# Altium footprint library optics.PcbLib: 67 footprints (part 2 of 5)
Each footprint in its own frame and in the unit in brackets; x right, y up, seen from the top. Pads: shape width x height; smd on the part's side, far side on the other; paste and mask are expansions set on the pad; w line width, h text height; cw(c..) or ccw(c..) is an arc to the next point about the centre after c.
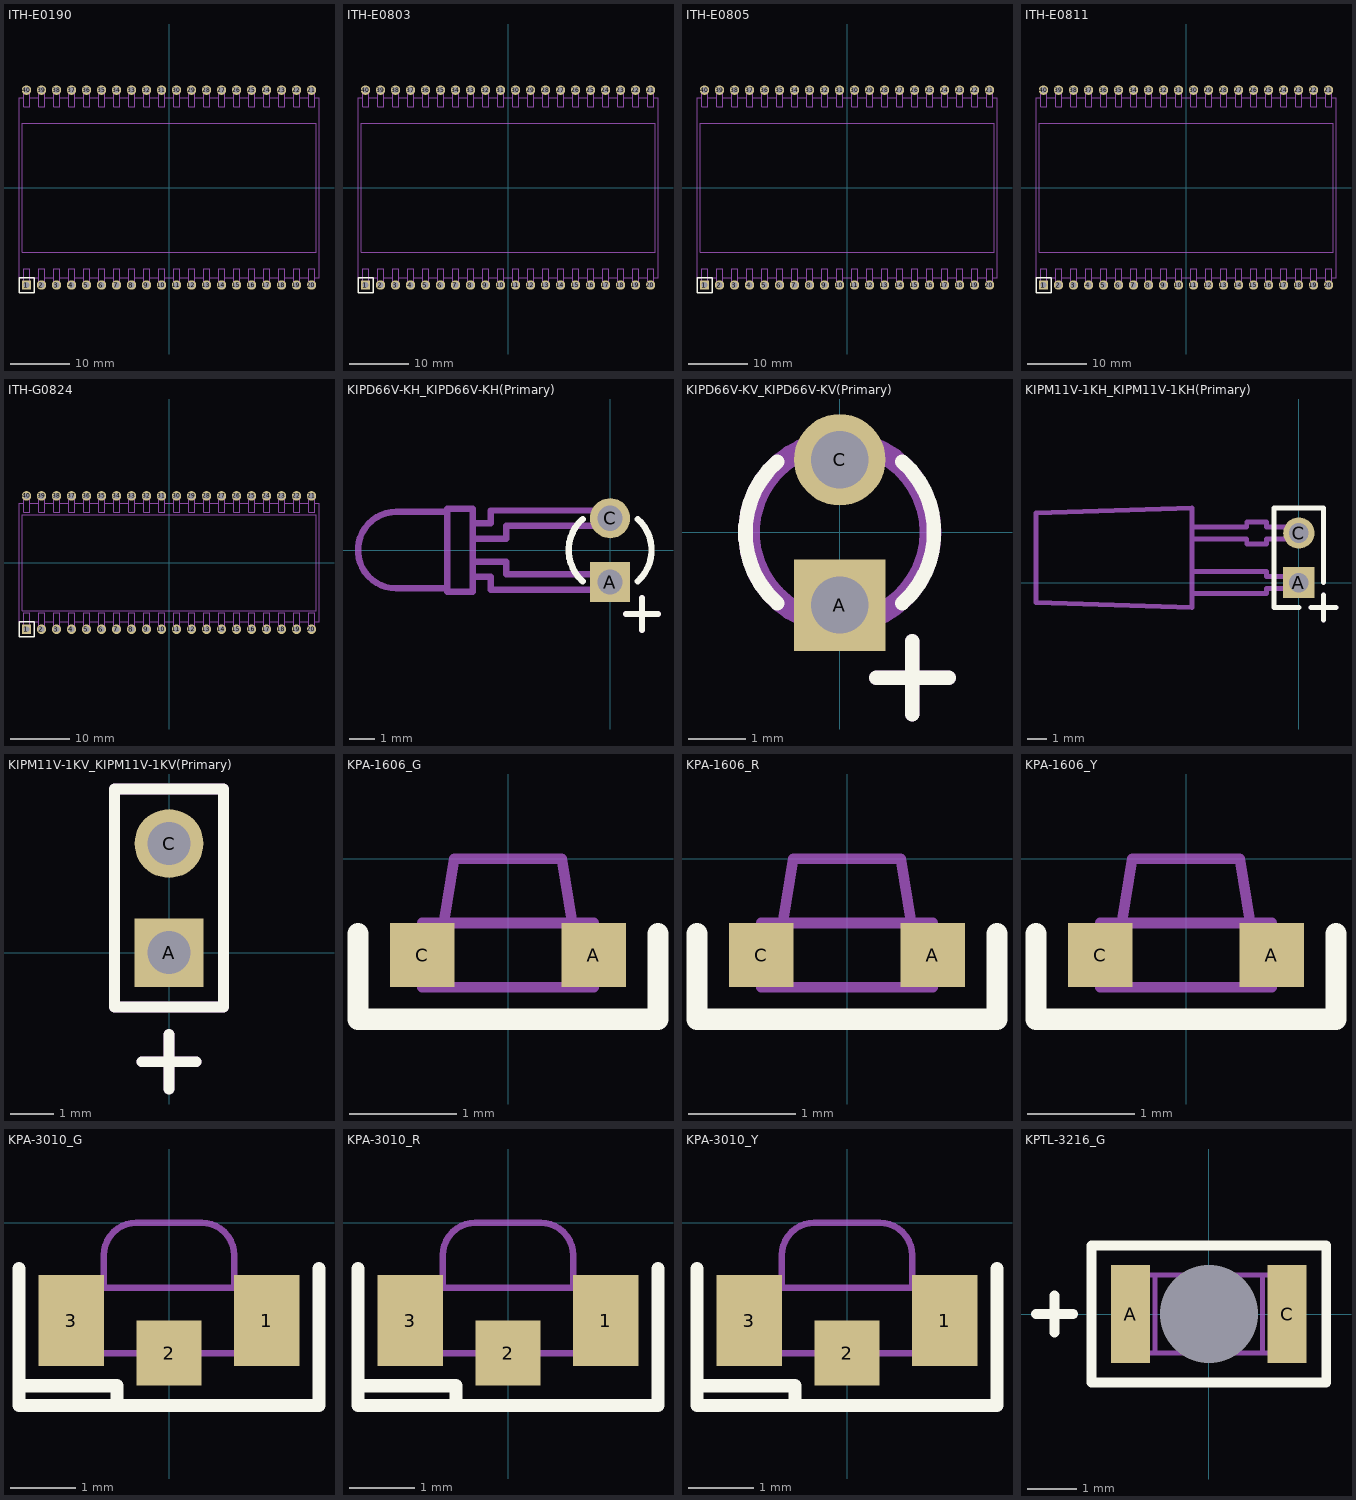
[diagram p1: the footprints below, top view; thin cyan lines are the x and y axes]

## ITH-E0190 [mm] "Intech numeric LCD"
height 5.8
pads (40):
  rect 1.6x1.6 hole 1: 1(-24.13,-16.5)
  round 1.6 hole 1: 2(-21.59,-16.5) 3(-19.05,-16.5) 4(-16.51,-16.5) 5(-13.97,-16.5) 6(-11.43,-16.5) 7(-8.89,-16.5) 8(-6.35,-16.5) 9(-3.81,-16.5) 10(-1.27,-16.5) 11(1.27,-16.5) 12(3.81,-16.5) 13(6.35,-16.5) 14(8.89,-16.5) 15(11.43,-16.5) 16(13.97,-16.5) 17(16.51,-16.5) 18(19.05,-16.5) 19(21.59,-16.5) 20(24.13,-16.5) 21(24.13,16.5) 22(21.59,16.5) 23(19.05,16.5) 24(16.51,16.5) 25(13.97,16.5) 26(11.43,16.5) 27(8.89,16.5) 28(6.35,16.5) 29(3.81,16.5) 30(1.27,16.5) 31(-1.27,16.5) 32(-3.81,16.5) 33(-6.35,16.5) 34(-8.89,16.5) 35(-11.43,16.5) 36(-13.97,16.5) 37(-16.51,16.5) 38(-19.05,16.5) 39(-21.59,16.5) 40(-24.13,16.5)
Top Overlay:
  lines w0.25: -25.4,-17.78 -25.4,-15.24 -22.86,-15.24 -22.86,-17.78 -25.4,-17.78
Mechanical 1:
  drawing of 208 lines, arcs and shapes, not listed
3D body: height 3, standoff -3.4, extent 23.53,13.51 24.73,16.71
3D body: height 3, standoff -3.4, extent 20.99,13.51 22.19,16.71
3D body: height 3, standoff -3.4, extent 18.45,13.51 19.65,16.71
3D body: height 3, standoff -3.4, extent 13.37,13.51 14.57,16.71
3D body: height 3, standoff -3.4, extent 15.91,13.51 17.11,16.71
3D body: height 3, standoff -3.4, extent 10.83,13.51 12.03,16.71
3D body: height 3, standoff -3.4, extent 8.29,13.51 9.49,16.71
3D body: height 3, standoff -3.4, extent 3.21,13.51 4.41,16.71
3D body: height 3, standoff -3.4, extent 5.75,13.51 6.95,16.71
3D body: height 3, standoff -3.4, extent -19.65,13.51 -18.45,16.71
3D body: height 3, standoff -3.4, extent -22.19,13.51 -20.99,16.71
3D body: height 3, standoff -3.4, extent -24.73,13.51 -23.53,16.71
3D body: height 3, standoff -3.4, extent -9.49,13.51 -8.29,16.71
3D body: height 3, standoff -3.4, extent -12.03,13.51 -10.83,16.71
3D body: height 3, standoff -3.4, extent -17.11,13.51 -15.91,16.71
3D body: height 3, standoff -3.4, extent -14.57,13.51 -13.37,16.71
3D body: height 3, standoff -3.4, extent -4.41,13.51 -3.21,16.71
3D body: height 3, standoff -3.4, extent -6.95,13.51 -5.75,16.71
3D body: height 3, standoff -3.4, extent 20.99,-16.69 22.19,-13.49
3D body: height 3, standoff -3.4, extent 18.45,-16.69 19.65,-13.49
3D body: height 3, standoff -3.4, extent 15.91,-16.69 17.11,-13.49
3D body: height 3, standoff -3.4, extent 13.37,-16.69 14.57,-13.49
3D body: height 3, standoff -3.4, extent 3.21,-16.69 4.41,-13.49
3D body: height 3, standoff -3.4, extent 5.75,-16.69 6.95,-13.49
3D body: height 3, standoff -3.4, extent 8.29,-16.69 9.49,-13.49
3D body: height 3, standoff -3.4, extent 10.83,-16.69 12.03,-13.49
3D body: height 3, standoff -3.4, extent 23.53,-16.69 24.73,-13.49
3D body: height 3, standoff -3.4, extent -1.87,-16.69 -0.67,-13.49
3D body: height 3, standoff -3.4, extent -14.57,-16.69 -13.37,-13.49
3D body: height 3, standoff -3.4, extent -17.11,-16.69 -15.91,-13.49
3D body: height 3, standoff -3.4, extent -19.65,-16.69 -18.45,-13.49
3D body: height 3, standoff -3.4, extent -22.19,-16.69 -20.99,-13.49
3D body: height 3, standoff -3.4, extent -24.73,-16.69 -23.53,-13.49
3D body: height 3, standoff -3.4, extent -12.03,-16.69 -10.83,-13.49
3D body: height 3, standoff -3.4, extent -9.49,-16.69 -8.29,-13.49
3D body: height 3, standoff -3.4, extent -6.95,-16.69 -5.75,-13.49
3D body: height 3, standoff -3.4, extent -4.41,-16.69 -3.21,-13.49
3D body: height 5.8, standoff 4.01, extent -25,-11 25,11
3D body: height 3, standoff -3.4, extent -1.87,13.51 -0.67,16.71
3D body: height 3, standoff -3.4, extent 0.67,13.51 1.87,16.71
3D body: height 4, standoff 3, extent -25.4,-15.25 25.4,15.25
3D body: height 3, standoff -3.4, extent 0.67,-16.69 1.87,-13.49

## ITH-E0803 [mm] "Intech numeric LCD"
height 5.8
pads (40):
  rect 1.6x1.6 hole 1: 1(-24.13,-16.5)
  round 1.6 hole 1: 2(-21.59,-16.5) 3(-19.05,-16.5) 4(-16.51,-16.5) 5(-13.97,-16.5) 6(-11.43,-16.5) 7(-8.89,-16.5) 8(-6.35,-16.5) 9(-3.81,-16.5) 10(-1.27,-16.5) 11(1.27,-16.5) 12(3.81,-16.5) 13(6.35,-16.5) 14(8.89,-16.5) 15(11.43,-16.5) 16(13.97,-16.5) 17(16.51,-16.5) 18(19.05,-16.5) 19(21.59,-16.5) 20(24.13,-16.5) 21(24.13,16.5) 22(21.59,16.5) 23(19.05,16.5) 24(16.51,16.5) 25(13.97,16.5) 26(11.43,16.5) 27(8.89,16.5) 28(6.35,16.5) 29(3.81,16.5) 30(1.27,16.5) 31(-1.27,16.5) 32(-3.81,16.5) 33(-6.35,16.5) 34(-8.89,16.5) 35(-11.43,16.5) 36(-13.97,16.5) 37(-16.51,16.5) 38(-19.05,16.5) 39(-21.59,16.5) 40(-24.13,16.5)
Top Overlay:
  lines w0.25: -25.4,-17.78 -22.86,-17.78 -22.86,-15.24 -25.4,-15.24 -25.4,-17.78
Mechanical 1:
  drawing of 208 lines, arcs and shapes, not listed
3D body: height 3, standoff -3.4, extent 0.67,-16.69 1.87,-13.49
3D body: height 4, standoff 3, extent -25.4,-15.25 25.4,15.25
3D body: height 3, standoff -3.4, extent 0.67,13.51 1.87,16.71
3D body: height 3, standoff -3.4, extent -1.87,13.51 -0.67,16.71
3D body: height 5.8, standoff 4.01, extent -25,-11 25,11
3D body: height 3, standoff -3.4, extent -4.41,-16.69 -3.21,-13.49
3D body: height 3, standoff -3.4, extent -6.95,-16.69 -5.75,-13.49
3D body: height 3, standoff -3.4, extent -9.49,-16.69 -8.29,-13.49
3D body: height 3, standoff -3.4, extent -12.03,-16.69 -10.83,-13.49
3D body: height 3, standoff -3.4, extent -24.73,-16.69 -23.53,-13.49
3D body: height 3, standoff -3.4, extent -22.19,-16.69 -20.99,-13.49
3D body: height 3, standoff -3.4, extent -19.65,-16.69 -18.45,-13.49
3D body: height 3, standoff -3.4, extent -17.11,-16.69 -15.91,-13.49
3D body: height 3, standoff -3.4, extent -14.57,-16.69 -13.37,-13.49
3D body: height 3, standoff -3.4, extent -1.87,-16.69 -0.67,-13.49
3D body: height 3, standoff -3.4, extent 23.53,-16.69 24.73,-13.49
3D body: height 3, standoff -3.4, extent 10.83,-16.69 12.03,-13.49
3D body: height 3, standoff -3.4, extent 8.29,-16.69 9.49,-13.49
3D body: height 3, standoff -3.4, extent 5.75,-16.69 6.95,-13.49
3D body: height 3, standoff -3.4, extent 3.21,-16.69 4.41,-13.49
3D body: height 3, standoff -3.4, extent 13.37,-16.69 14.57,-13.49
3D body: height 3, standoff -3.4, extent 15.91,-16.69 17.11,-13.49
3D body: height 3, standoff -3.4, extent 18.45,-16.69 19.65,-13.49
3D body: height 3, standoff -3.4, extent 20.99,-16.69 22.19,-13.49
3D body: height 3, standoff -3.4, extent -6.95,13.51 -5.75,16.71
3D body: height 3, standoff -3.4, extent -4.41,13.51 -3.21,16.71
3D body: height 3, standoff -3.4, extent -14.57,13.51 -13.37,16.71
3D body: height 3, standoff -3.4, extent -17.11,13.51 -15.91,16.71
3D body: height 3, standoff -3.4, extent -12.03,13.51 -10.83,16.71
3D body: height 3, standoff -3.4, extent -9.49,13.51 -8.29,16.71
3D body: height 3, standoff -3.4, extent -24.73,13.51 -23.53,16.71
3D body: height 3, standoff -3.4, extent -22.19,13.51 -20.99,16.71
3D body: height 3, standoff -3.4, extent -19.65,13.51 -18.45,16.71
3D body: height 3, standoff -3.4, extent 5.75,13.51 6.95,16.71
3D body: height 3, standoff -3.4, extent 3.21,13.51 4.41,16.71
3D body: height 3, standoff -3.4, extent 8.29,13.51 9.49,16.71
3D body: height 3, standoff -3.4, extent 10.83,13.51 12.03,16.71
3D body: height 3, standoff -3.4, extent 15.91,13.51 17.11,16.71
3D body: height 3, standoff -3.4, extent 13.37,13.51 14.57,16.71
3D body: height 3, standoff -3.4, extent 18.45,13.51 19.65,16.71
3D body: height 3, standoff -3.4, extent 20.99,13.51 22.19,16.71
3D body: height 3, standoff -3.4, extent 23.53,13.51 24.73,16.71

## ITH-E0805 [mm] "Intech numeric LCD"
height 5.8
pads (40):
  rect 1.6x1.6 hole 1: 1(-24.13,-16.5)
  round 1.6 hole 1: 2(-21.59,-16.5) 3(-19.05,-16.5) 4(-16.51,-16.5) 5(-13.97,-16.5) 6(-11.43,-16.5) 7(-8.89,-16.5) 8(-6.35,-16.5) 9(-3.81,-16.5) 10(-1.27,-16.5) 11(1.27,-16.5) 12(3.81,-16.5) 13(6.35,-16.5) 14(8.89,-16.5) 15(11.43,-16.5) 16(13.97,-16.5) 17(16.51,-16.5) 18(19.05,-16.5) 19(21.59,-16.5) 20(24.13,-16.5) 21(24.13,16.5) 22(21.59,16.5) 23(19.05,16.5) 24(16.51,16.5) 25(13.97,16.5) 26(11.43,16.5) 27(8.89,16.5) 28(6.35,16.5) 29(3.81,16.5) 30(1.27,16.5) 31(-1.27,16.5) 32(-3.81,16.5) 33(-6.35,16.5) 34(-8.89,16.5) 35(-11.43,16.5) 36(-13.97,16.5) 37(-16.51,16.5) 38(-19.05,16.5) 39(-21.59,16.5) 40(-24.13,16.5)
Top Overlay:
  lines w0.25: -25.4,-17.78 -25.4,-15.24 -22.86,-15.24 -22.86,-17.78 -25.4,-17.78
Mechanical 1:
  drawing of 208 lines, arcs and shapes, not listed
3D body: height 3, standoff -3.4, extent 23.53,13.51 24.73,16.71
3D body: height 3, standoff -3.4, extent 20.99,13.51 22.19,16.71
3D body: height 3, standoff -3.4, extent 18.45,13.51 19.65,16.71
3D body: height 3, standoff -3.4, extent 13.37,13.51 14.57,16.71
3D body: height 3, standoff -3.4, extent 15.91,13.51 17.11,16.71
3D body: height 3, standoff -3.4, extent 10.83,13.51 12.03,16.71
3D body: height 3, standoff -3.4, extent 8.29,13.51 9.49,16.71
3D body: height 3, standoff -3.4, extent 3.21,13.51 4.41,16.71
3D body: height 3, standoff -3.4, extent 5.75,13.51 6.95,16.71
3D body: height 3, standoff -3.4, extent -19.65,13.51 -18.45,16.71
3D body: height 3, standoff -3.4, extent -22.19,13.51 -20.99,16.71
3D body: height 3, standoff -3.4, extent -24.73,13.51 -23.53,16.71
3D body: height 3, standoff -3.4, extent -9.49,13.51 -8.29,16.71
3D body: height 3, standoff -3.4, extent -12.03,13.51 -10.83,16.71
3D body: height 3, standoff -3.4, extent -17.11,13.51 -15.91,16.71
3D body: height 3, standoff -3.4, extent -14.57,13.51 -13.37,16.71
3D body: height 3, standoff -3.4, extent -4.41,13.51 -3.21,16.71
3D body: height 3, standoff -3.4, extent -6.95,13.51 -5.75,16.71
3D body: height 3, standoff -3.4, extent 20.99,-16.69 22.19,-13.49
3D body: height 3, standoff -3.4, extent 18.45,-16.69 19.65,-13.49
3D body: height 3, standoff -3.4, extent 15.91,-16.69 17.11,-13.49
3D body: height 3, standoff -3.4, extent 13.37,-16.69 14.57,-13.49
3D body: height 3, standoff -3.4, extent 3.21,-16.69 4.41,-13.49
3D body: height 3, standoff -3.4, extent 5.75,-16.69 6.95,-13.49
3D body: height 3, standoff -3.4, extent 8.29,-16.69 9.49,-13.49
3D body: height 3, standoff -3.4, extent 10.83,-16.69 12.03,-13.49
3D body: height 3, standoff -3.4, extent 23.53,-16.69 24.73,-13.49
3D body: height 3, standoff -3.4, extent -1.87,-16.69 -0.67,-13.49
3D body: height 3, standoff -3.4, extent -14.57,-16.69 -13.37,-13.49
3D body: height 3, standoff -3.4, extent -17.11,-16.69 -15.91,-13.49
3D body: height 3, standoff -3.4, extent -19.65,-16.69 -18.45,-13.49
3D body: height 3, standoff -3.4, extent -22.19,-16.69 -20.99,-13.49
3D body: height 3, standoff -3.4, extent -24.73,-16.69 -23.53,-13.49
3D body: height 3, standoff -3.4, extent -12.03,-16.69 -10.83,-13.49
3D body: height 3, standoff -3.4, extent -9.49,-16.69 -8.29,-13.49
3D body: height 3, standoff -3.4, extent -6.95,-16.69 -5.75,-13.49
3D body: height 3, standoff -3.4, extent -4.41,-16.69 -3.21,-13.49
3D body: height 5.8, standoff 4.01, extent -25,-11 25,11
3D body: height 3, standoff -3.4, extent -1.87,13.51 -0.67,16.71
3D body: height 3, standoff -3.4, extent 0.67,13.51 1.87,16.71
3D body: height 4, standoff 3, extent -25.4,-15.25 25.4,15.25
3D body: height 3, standoff -3.4, extent 0.67,-16.69 1.87,-13.49

## ITH-E0811 [mm] "Intech numeric LCD"
height 5.8
pads (40):
  rect 1.6x1.6 hole 1: 1(-24.13,-16.5)
  round 1.6 hole 1: 2(-21.59,-16.5) 3(-19.05,-16.5) 4(-16.51,-16.5) 5(-13.97,-16.5) 6(-11.43,-16.5) 7(-8.89,-16.5) 8(-6.35,-16.5) 9(-3.81,-16.5) 10(-1.27,-16.5) 11(1.27,-16.5) 12(3.81,-16.5) 13(6.35,-16.5) 14(8.89,-16.5) 15(11.43,-16.5) 16(13.97,-16.5) 17(16.51,-16.5) 18(19.05,-16.5) 19(21.59,-16.5) 20(24.13,-16.5) 21(24.13,16.5) 22(21.59,16.5) 23(19.05,16.5) 24(16.51,16.5) 25(13.97,16.5) 26(11.43,16.5) 27(8.89,16.5) 28(6.35,16.5) 29(3.81,16.5) 30(1.27,16.5) 31(-1.27,16.5) 32(-3.81,16.5) 33(-6.35,16.5) 34(-8.89,16.5) 35(-11.43,16.5) 36(-13.97,16.5) 37(-16.51,16.5) 38(-19.05,16.5) 39(-21.59,16.5) 40(-24.13,16.5)
Top Overlay:
  lines w0.25: -25.4,-17.78 -22.86,-17.78 -22.86,-15.24 -25.4,-15.24 -25.4,-17.78
Mechanical 1:
  drawing of 208 lines, arcs and shapes, not listed
3D body: height 3, standoff -3.4, extent 0.67,-16.69 1.87,-13.49
3D body: height 4, standoff 3, extent -25.4,-15.25 25.4,15.25
3D body: height 3, standoff -3.4, extent 0.67,13.51 1.87,16.71
3D body: height 3, standoff -3.4, extent -1.87,13.51 -0.67,16.71
3D body: height 5.8, standoff 4.01, extent -25,-11 25,11
3D body: height 3, standoff -3.4, extent -4.41,-16.69 -3.21,-13.49
3D body: height 3, standoff -3.4, extent -6.95,-16.69 -5.75,-13.49
3D body: height 3, standoff -3.4, extent -9.49,-16.69 -8.29,-13.49
3D body: height 3, standoff -3.4, extent -12.03,-16.69 -10.83,-13.49
3D body: height 3, standoff -3.4, extent -24.73,-16.69 -23.53,-13.49
3D body: height 3, standoff -3.4, extent -22.19,-16.69 -20.99,-13.49
3D body: height 3, standoff -3.4, extent -19.65,-16.69 -18.45,-13.49
3D body: height 3, standoff -3.4, extent -17.11,-16.69 -15.91,-13.49
3D body: height 3, standoff -3.4, extent -14.57,-16.69 -13.37,-13.49
3D body: height 3, standoff -3.4, extent -1.87,-16.69 -0.67,-13.49
3D body: height 3, standoff -3.4, extent 23.53,-16.69 24.73,-13.49
3D body: height 3, standoff -3.4, extent 10.83,-16.69 12.03,-13.49
3D body: height 3, standoff -3.4, extent 8.29,-16.69 9.49,-13.49
3D body: height 3, standoff -3.4, extent 5.75,-16.69 6.95,-13.49
3D body: height 3, standoff -3.4, extent 3.21,-16.69 4.41,-13.49
3D body: height 3, standoff -3.4, extent 13.37,-16.69 14.57,-13.49
3D body: height 3, standoff -3.4, extent 15.91,-16.69 17.11,-13.49
3D body: height 3, standoff -3.4, extent 18.45,-16.69 19.65,-13.49
3D body: height 3, standoff -3.4, extent 20.99,-16.69 22.19,-13.49
3D body: height 3, standoff -3.4, extent -6.95,13.51 -5.75,16.71
3D body: height 3, standoff -3.4, extent -4.41,13.51 -3.21,16.71
3D body: height 3, standoff -3.4, extent -14.57,13.51 -13.37,16.71
3D body: height 3, standoff -3.4, extent -17.11,13.51 -15.91,16.71
3D body: height 3, standoff -3.4, extent -12.03,13.51 -10.83,16.71
3D body: height 3, standoff -3.4, extent -9.49,13.51 -8.29,16.71
3D body: height 3, standoff -3.4, extent -24.73,13.51 -23.53,16.71
3D body: height 3, standoff -3.4, extent -22.19,13.51 -20.99,16.71
3D body: height 3, standoff -3.4, extent -19.65,13.51 -18.45,16.71
3D body: height 3, standoff -3.4, extent 5.75,13.51 6.95,16.71
3D body: height 3, standoff -3.4, extent 3.21,13.51 4.41,16.71
3D body: height 3, standoff -3.4, extent 8.29,13.51 9.49,16.71
3D body: height 3, standoff -3.4, extent 10.83,13.51 12.03,16.71
3D body: height 3, standoff -3.4, extent 15.91,13.51 17.11,16.71
3D body: height 3, standoff -3.4, extent 13.37,13.51 14.57,16.71
3D body: height 3, standoff -3.4, extent 18.45,13.51 19.65,16.71
3D body: height 3, standoff -3.4, extent 20.99,13.51 22.19,16.71
3D body: height 3, standoff -3.4, extent 23.53,13.51 24.73,16.71

## ITH-G0824 [mm] "Intech numeric LCD"
height 5.8
pads (40):
  rect 1.6x1.6 hole 1: 1(-24.13,-11.293)
  round 1.6 hole 1: 2(-21.59,-11.293) 3(-19.05,-11.293) 4(-16.51,-11.293) 5(-13.97,-11.293) 6(-11.43,-11.293) 7(-8.89,-11.293) 8(-6.35,-11.293) 9(-3.81,-11.293) 10(-1.27,-11.293) 11(1.27,-11.293) 12(3.81,-11.293) 13(6.35,-11.293) 14(8.89,-11.293) 15(11.43,-11.293) 16(13.97,-11.293) 17(16.51,-11.293) 18(19.05,-11.293) 19(21.59,-11.293) 20(24.13,-11.293) 21(24.13,11.293) 22(21.59,11.293) 23(19.05,11.293) 24(16.51,11.293) 25(13.97,11.293) 26(11.43,11.293) 27(8.89,11.293) 28(6.35,11.293) 29(3.81,11.293) 30(1.27,11.293) 31(-1.27,11.293) 32(-3.81,11.293) 33(-6.35,11.293) 34(-8.89,11.293) 35(-11.43,11.293) 36(-13.97,11.293) 37(-16.51,11.293) 38(-19.05,11.293) 39(-21.59,11.293) 40(-24.13,11.293)
Top Overlay:
  lines w0.25: -25.4,-12.573 -22.86,-12.573 -22.86,-10.033 -25.4,-10.033 -25.4,-12.573
Mechanical 1:
  drawing of 208 lines, arcs and shapes, not listed
3D body: height 5.8, standoff 4.01, extent -25,-8.128 25,8.128
3D body: height 4, standoff 3, extent -25.4,-10.414 25.4,10.414
3D body: height 3, standoff -3.4, extent 0.67,8.303 1.87,11.503
3D body: height 3, standoff -3.4, extent -1.87,8.303 -0.67,11.503
3D body: height 3, standoff -3.4, extent -6.95,8.303 -5.75,11.503
3D body: height 3, standoff -3.4, extent -4.41,8.303 -3.21,11.503
3D body: height 3, standoff -3.4, extent -14.57,8.303 -13.37,11.503
3D body: height 3, standoff -3.4, extent -17.11,8.303 -15.91,11.503
3D body: height 3, standoff -3.4, extent -12.03,8.303 -10.83,11.503
3D body: height 3, standoff -3.4, extent -9.49,8.303 -8.29,11.503
3D body: height 3, standoff -3.4, extent -24.73,8.303 -23.53,11.503
3D body: height 3, standoff -3.4, extent -22.19,8.303 -20.99,11.503
3D body: height 3, standoff -3.4, extent -19.65,8.303 -18.45,11.503
3D body: height 3, standoff -3.4, extent 5.75,8.303 6.95,11.503
3D body: height 3, standoff -3.4, extent 3.21,8.303 4.41,11.503
3D body: height 3, standoff -3.4, extent 8.29,8.303 9.49,11.503
3D body: height 3, standoff -3.4, extent 10.83,8.303 12.03,11.503
3D body: height 3, standoff -3.4, extent 15.91,8.303 17.11,11.503
3D body: height 3, standoff -3.4, extent 13.37,8.303 14.57,11.503
3D body: height 3, standoff -3.4, extent 18.45,8.303 19.65,11.503
3D body: height 3, standoff -3.4, extent 20.99,8.303 22.19,11.503
3D body: height 3, standoff -3.4, extent 23.53,8.303 24.73,11.503
3D body: height 3, standoff -3.4, extent 0.67,-11.483 1.87,-8.283
3D body: height 3, standoff -3.4, extent -4.41,-11.483 -3.21,-8.283
3D body: height 3, standoff -3.4, extent -6.95,-11.483 -5.75,-8.283
3D body: height 3, standoff -3.4, extent -9.49,-11.483 -8.29,-8.283
3D body: height 3, standoff -3.4, extent -12.03,-11.483 -10.83,-8.283
3D body: height 3, standoff -3.4, extent -24.73,-11.483 -23.53,-8.283
3D body: height 3, standoff -3.4, extent -22.19,-11.483 -20.99,-8.283
3D body: height 3, standoff -3.4, extent -19.65,-11.483 -18.45,-8.283
3D body: height 3, standoff -3.4, extent -17.11,-11.483 -15.91,-8.283
3D body: height 3, standoff -3.4, extent -14.57,-11.483 -13.37,-8.283
3D body: height 3, standoff -3.4, extent -1.87,-11.483 -0.67,-8.283
3D body: height 3, standoff -3.4, extent 23.53,-11.483 24.73,-8.283
3D body: height 3, standoff -3.4, extent 10.83,-11.483 12.03,-8.283
3D body: height 3, standoff -3.4, extent 8.29,-11.483 9.49,-8.283
3D body: height 3, standoff -3.4, extent 5.75,-11.483 6.95,-8.283
3D body: height 3, standoff -3.4, extent 3.21,-11.483 4.41,-8.283
3D body: height 3, standoff -3.4, extent 13.37,-11.483 14.57,-8.283
3D body: height 3, standoff -3.4, extent 15.91,-11.483 17.11,-8.283
3D body: height 3, standoff -3.4, extent 18.45,-11.483 19.65,-8.283
3D body: height 3, standoff -3.4, extent 20.99,-11.483 22.19,-8.283

## KIPD66V-KH_KIPD66V-KH(Primary) [mm]
pads (2):
  rect 1.6x1.6 hole 1: A(0,-1.27)
  round 1.6 hole 1: C(0,1.27)
Top Overlay:
  lines w0.254: -1.096,-1.235 cw(c0,0) -1.096,1.235 ; 0.635,-2.54 1.905,-2.54 ; 1.096,-1.235 ccw(c0,0) 1.096,1.235 ; 1.27,-3.175 1.27,-1.905
Mechanical 1:
  lines w0.254: -6.477,-1.524 -8.509,-1.524 cw(c-8.509,0) -8.509,1.524 -6.477,1.524 ; -5.461,-1.067 -4.75,-1.067 -4.75,-1.575 0,-1.575 0,-0.965 -4.14,-0.965 -4.14,-0.457 -5.461,-0.457 ; -5.461,0.457 -4.14,0.457 -4.14,0.965 0,0.965 0,1.575 -4.75,1.575 -4.75,1.067 -5.461,1.067 ; 0.635,-2.54 1.905,-2.54 ; 1.27,-3.175 1.27,-1.905 ; -6.477,-1.651 -5.461,-1.651 -5.461,1.651 -6.477,1.651 -6.477,-1.651
3D body: height 3, standoff -1, extent -10.334,-1.997 -5.334,1.5

## KIPD66V-KV_KIPD66V-KV(Primary) [mm]
pads (2):
  rect 1.6x1.6 hole 1: A(0,-1.27)
  round 1.6 hole 1: C(0,1.27)
Top Overlay:
  lines w0.254: -1.096,-1.235 cw(c0,0) -1.096,1.235 ; 0.635,-2.54 1.905,-2.54 ; 1.096,-1.235 ccw(c0,0) 1.096,1.235 ; 1.27,-3.175 1.27,-1.905
Mechanical 1:
  circle w0.254: c0,0 r1.524
  circle w0.254: c0,0 r1.651
  lines w0.254: 0.635,-2.54 1.905,-2.54 ; 1.27,-3.175 1.27,-1.905
3D body: height 10, standoff 5, extent -1.999,-1.997 1.999,1.5

## KIPM11V-1KH_KIPM11V-1KH(Primary) [mm]
pads (2):
  rect 1.6x1.6 hole 1: A(0,0)
  round 1.6 hole 1: C(0,2.54)
Top Overlay:
  lines w0.254: 0,-1.27 -1.27,-1.27 -1.27,3.81 1.27,3.81 1.27,0 ; 0.635,-1.27 1.905,-1.27 ; 1.27,-1.905 1.27,-0.635
Mechanical 1:
  lines w0.254: -5.461,-0.559 -1.651,-0.559 -1.651,-0.305 0,-0.305 0,0.305 -1.651,0.305 -1.651,0.559 -5.461,0.559 ; -5.461,2.235 -2.667,2.235 -2.667,1.981 -1.651,1.981 -1.651,2.235 0,2.235 0,2.845 -1.651,2.845 -1.651,3.099 -2.667,3.099 -2.667,2.845 -5.461,2.845 ; 0.635,-1.27 1.905,-1.27 ; 1.27,-1.905 1.27,-0.635 ; -13.462,-1.016 -13.462,3.556 -5.461,3.81 -5.461,-1.27 -13.462,-1.016

## KIPM11V-1KV_KIPM11V-1KV(Primary) [mm]
pads (2):
  rect 1.6x1.6 hole 1: A(0,0)
  round 1.6 hole 1: C(0,2.54)
Top Overlay:
  lines w0.254: -0.635,-2.54 0.635,-2.54 ; 0,-3.175 0,-1.905 ; -1.27,-1.27 1.27,-1.27 1.27,3.81 -1.27,3.81 -1.27,-1.27
Mechanical 1:
  lines w0.254: -0.635,-2.54 0.635,-2.54 ; 0,-3.175 0,-1.905 ; -1.27,-1.27 1.27,-1.27 1.27,3.81 -1.27,3.81 -1.27,-1.27

## KPA-1606_G [mm] "Side SMD led"
height 0.6
pads (2):
  rect 0.6x0.6 smd: A(0.8,-0.9) C(-0.8,-0.9)
Top Overlay:
  lines w0.2: -1.4,-0.7 -1.4,-1.5 1.4,-1.5 1.4,-0.7
Mechanical 1:
  lines w0.1: -0.6,-0.6 -0.5,0 0.5,0 0.6,-0.6 ; -0.8,-1.2 -0.8,-0.6 0.8,-0.6 0.8,-1.2 -0.8,-1.2
3D body: height 1, standoff 0, extent -0.8,-1.2 0.8,-0.6
3D body: height 1, standoff 0, extent -0.7,-0.6 0.7,0

## KPA-1606_R [mm] "Side SMD led"
height 0.6
pads (2):
  rect 0.6x0.6 smd: A(0.8,-0.9) C(-0.8,-0.9)
Top Overlay:
  lines w0.2: -1.4,-0.7 -1.4,-1.5 1.4,-1.5 1.4,-0.7
Mechanical 1:
  lines w0.1: -0.6,-0.6 -0.5,0 0.5,0 0.6,-0.6 ; -0.8,-1.2 0.8,-1.2 0.8,-0.6 -0.8,-0.6 -0.8,-1.2
3D body: height 1, standoff 0, extent -0.7,-0.6 0.7,0
3D body: height 1, standoff 0, extent -0.8,-1.2 0.8,-0.6

## KPA-1606_Y [mm] "Side SMD led"
height 0.6
pads (2):
  rect 0.6x0.6 smd: A(0.8,-0.9) C(-0.8,-0.9)
Top Overlay:
  lines w0.2: -1.4,-0.7 -1.4,-1.5 1.4,-1.5 1.4,-0.7
Mechanical 1:
  lines w0.1: -0.6,-0.6 -0.5,0 0.5,0 0.6,-0.6 ; -0.8,-1.2 -0.8,-0.6 0.8,-0.6 0.8,-1.2 -0.8,-1.2
3D body: height 1, standoff 0, extent -0.8,-1.2 0.8,-0.6
3D body: height 1, standoff 0, extent -0.7,-0.6 0.7,0

## KPA-3010_G [mm] "Side SMD led"
height 1
pads (3):
  rect 1x1.4 smd: 1(1.5,-1.5) 3(-1.5,-1.5)
  rect 1x1 smd: 2(0,-2)
Top Overlay:
  lines w0.2: -2.3,-2.5 -0.8,-2.5 -0.8,-2.8 ; -2.3,-0.7 -2.3,-2.8 2.3,-2.8 2.3,-0.7
Mechanical 1:
  lines w0.1: -1,-1 -1,-0.5 cw(c-0.5,-0.5) -0.5,0 0.5,0 cw(c0.5,-0.5) 1,-0.5 1,-1 ; -1.5,-2 -1.5,-1 1.5,-1 1.5,-2 -1.5,-2
3D body: height 1, standoff 0, extent -1.5,-2 1.5,-1
3D body: height 1, standoff 0, extent -1,-1 1,0

## KPA-3010_R [mm] "Side SMD led"
height 1
pads (3):
  rect 1x1.4 smd: 1(1.5,-1.5) 3(-1.5,-1.5)
  rect 1x1 smd: 2(0,-2)
Top Overlay:
  lines w0.2: -2.3,-2.5 -0.8,-2.5 -0.8,-2.8 ; -2.3,-0.7 -2.3,-2.8 2.3,-2.8 2.3,-0.7
Mechanical 1:
  lines w0.1: -1,-1 -1,-0.5 cw(c-0.5,-0.5) -0.5,0 0.5,0 cw(c0.5,-0.5) 1,-0.5 1,-1 ; -1.5,-2 -1.5,-1 1.5,-1 1.5,-2 -1.5,-2
3D body: height 1, standoff 0, extent -1.5,-2 1.5,-1
3D body: height 1, standoff 0, extent -1,-1 1,0

## KPA-3010_Y [mm] "Side SMD led"
height 1
pads (3):
  rect 1x1.4 smd: 1(1.5,-1.5) 3(-1.5,-1.5)
  rect 1x1 smd: 2(0,-2)
Top Overlay:
  lines w0.2: -2.3,-2.5 -0.8,-2.5 -0.8,-2.8 ; -2.3,-0.7 -2.3,-2.8 2.3,-2.8 2.3,-0.7
Mechanical 1:
  lines w0.1: -1,-1 -1,-0.5 cw(c-0.5,-0.5) -0.5,0 0.5,0 cw(c0.5,-0.5) 1,-0.5 1,-1 ; -1.5,-2 1.5,-2 1.5,-1 -1.5,-1 -1.5,-2
3D body: height 1, standoff 0, extent -1,-1 1,0
3D body: height 1, standoff 0, extent -1.5,-2 1.5,-1

## KPTL-3216_G [mm]
height 0.3
pads (3):
  rect 0.8x2 smd: A(-1.6,0) C(1.6,0)
  round 0 hole 2 unplated mask+1.2: LED(0,0)
Top Overlay:
  lines w0.2: -3.537,0 -2.775,0 ; -3.156,-0.381 -3.156,0.381 ; -2.4,-1.4 -2.4,1.4 2.4,1.4 2.4,-1.4 -2.4,-1.4
Top Solder:
  rectangle: -1.3,-1 1.3,1
Mechanical 1:
  circle w0.1: c0,0 r0.806
  lines w0.1: -1.1,-0.8 -1.1,0.8 ; 1.1,-0.8 1.1,0.8 ; -1.6,-0.8 -1.6,0.8 1.6,0.8 1.6,-0.8 -1.6,-0.8
3D body: height 0.3, standoff 0, extent -1.6,-0.8 1.6,0.8
3D body: height 0.1, standoff -0.9, extent -0.799,-0.8 0.8,0.8